# Altium footprint library SOIC16P127_990X600X175L83X41N.PcbLib: 1 footprints
Each footprint in its own frame and in the unit in brackets; x right, y up, seen from the top. Pads: shape width x height; smd on the part's side, far side on the other; paste and mask are expansions set on the pad; w line width, h text height; cw(c..) or ccw(c..) is an arc to the next point about the centre after c.
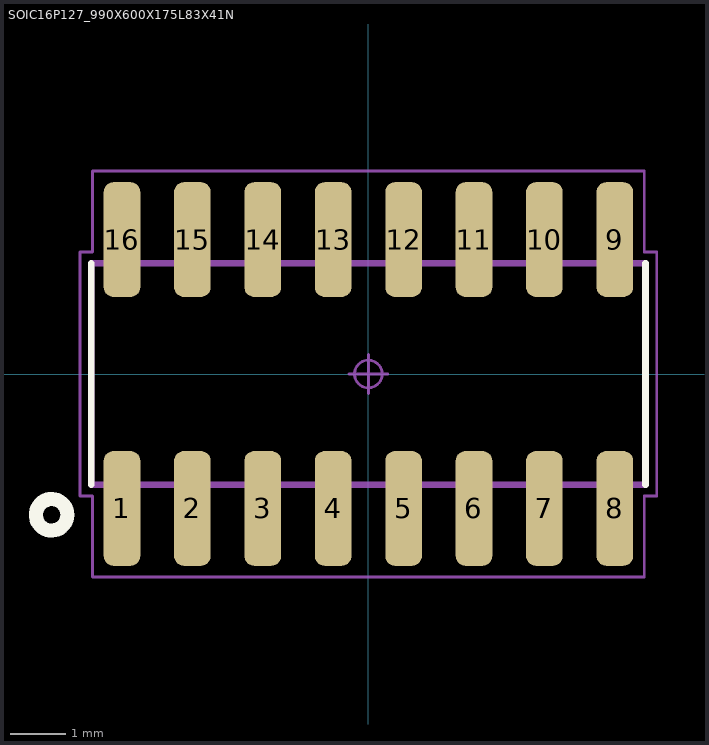
[diagram p0: the footprint, top view; thin cyan lines are the x and y axes]

## SOIC16P127_990X600X175L83X41N [mm] "Small Outline IC (SOIC), 1.27 mm pitch; 16 pin, 9.90 mm L X 3.90 mm W X 1.75 mm H body"
height 1.75
pads (16):
  rrect52% 0.66x2.07 smd: 1(-4.445,-2.425) 2(-3.175,-2.425) 3(-1.905,-2.425) 4(-0.635,-2.425) 5(0.635,-2.425) 6(1.905,-2.425) 7(3.175,-2.425) 8(4.445,-2.425) 9(4.445,2.425) 10(3.175,2.425) 11(1.905,2.425) 12(0.635,2.425) 13(-0.635,2.425) 14(-1.905,2.425) 15(-3.175,2.425) 16(-4.445,2.425)
Top Overlay:
  circle w0.254: c-5.715,-2.54 r0.284
  lines w0.12: -5,-2 -5,2 ; 5,-2 5,2
Mechanical 11:
  lines w0.12: -5,-2 -5,2 5,2 5,-2 -5,-2
Mechanical 12:
  lines w0.025: -4.95,-1.95 -4.95,1.95 4.95,1.95 4.95,-1.95 -4.95,-1.95 ; -4.65,-3 -4.24,-3 -4.24,-2.165 -4.65,-2.165 -4.65,-3 ; -4.65,2.165 -4.24,2.165 -4.24,3 -4.65,3 -4.65,2.165 ; -3.38,-3 -2.97,-3 -2.97,-2.165 -3.38,-2.165 -3.38,-3 ; -3.38,2.165 -2.97,2.165 -2.97,3 -3.38,3 -3.38,2.165 ; -2.11,-3 -1.7,-3 -1.7,-2.165 -2.11,-2.165 -2.11,-3 ; -2.11,2.165 -1.7,2.165 -1.7,3 -2.11,3 -2.11,2.165 ; -0.84,-3 -0.43,-3 -0.43,-2.165 -0.84,-2.165 -0.84,-3 ; -0.84,2.165 -0.43,2.165 -0.43,3 -0.84,3 -0.84,2.165 ; 0.43,-3 0.84,-3 0.84,-2.165 0.43,-2.165 0.43,-3 ; 0.43,2.165 0.84,2.165 0.84,3 0.43,3 0.43,2.165 ; 1.7,-3 2.11,-3 2.11,-2.165 1.7,-2.165 1.7,-3 ; 1.7,2.165 2.11,2.165 2.11,3 1.7,3 1.7,2.165 ; 2.97,-3 3.38,-3 3.38,-2.165 2.97,-2.165 2.97,-3 ; 2.97,2.165 3.38,2.165 3.38,3 2.97,3 2.97,2.165 ; 4.24,-3 4.65,-3 4.65,-2.165 4.24,-2.165 4.24,-3 ; 4.24,2.165 4.65,2.165 4.65,3 4.24,3 4.24,2.165
Mechanical 15:
  circle w0.05: c0,0 r0.25
  lines w0.05: -0.35,0 0.35,0 ; 0,-0.35 0,0.35 ; -5.2,-2.2 -5.2,2.2 -4.975,2.2 -4.975,3.66 4.975,3.66 4.975,2.2 5.2,2.2 5.2,-2.2 4.975,-2.2 4.975,-3.66 -4.975,-3.66 -4.975,-2.2 -5.2,-2.2
Mechanical 16:
  text ".Designator" at 0,0 h1.2
3D body: height 1.75, standoff 0, extent -4.95,-3.048 4.95,2.952